# EAGLE library part DS8640 (library dec-con)
Quad NOR gate
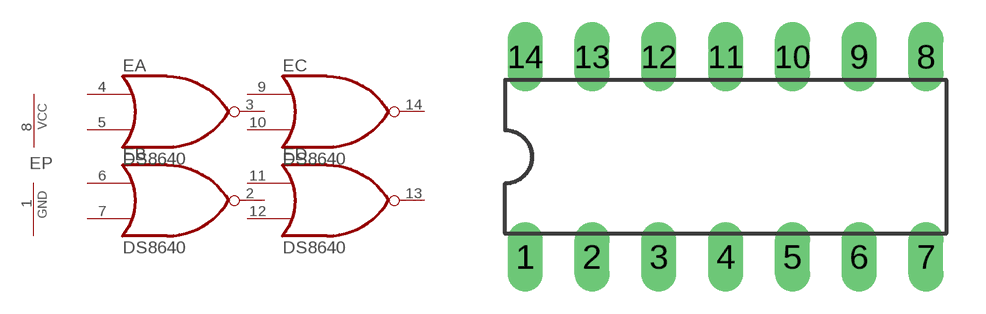
[diagram p11: symbol with the pads of DIL14; footprint DIL14]

Designator prefix E; gates A=NOR B=NOR C=NOR D=NOR P=PWRN

## DS8640N  [DIL14]
1  P:GND  pwr
2  B:O  out
3  A:O  out
4  A:I0  in
5  A:I1  in
6  B:I0  in
7  B:I1  in
8  P:VCC  pwr
9  C:I0  in
10  C:I1  in
11  D:I0  in
12  D:I1  in
13  D:O  out
14  C:O  out

## Footprint DIL14 (pad centres in mm)
Dual In Line Package
drill 0.813 long: 1 -7.62,-3.81; 2 -5.08,-3.81; 3 -2.54,-3.81; 4 0,-3.81; 5 2.54,-3.81; 6 5.08,-3.81; 7 7.62,-3.81; 8 7.62,3.81; 9 5.08,3.81; 10 2.54,3.81; 11 0,3.81; 12 -2.54,3.81; 13 -5.08,3.81; 14 -7.62,3.81